# Altium footprint library WE-GDTI.PcbLib: 1 footprints
Each footprint in its own frame and in the unit in brackets; x right, y up, seen from the top. Pads: shape width x height; smd on the part's side, far side on the other; paste and mask are expansions set on the pad; w line width, h text height; cw(c..) or ccw(c..) is an arc to the next point about the centre after c.
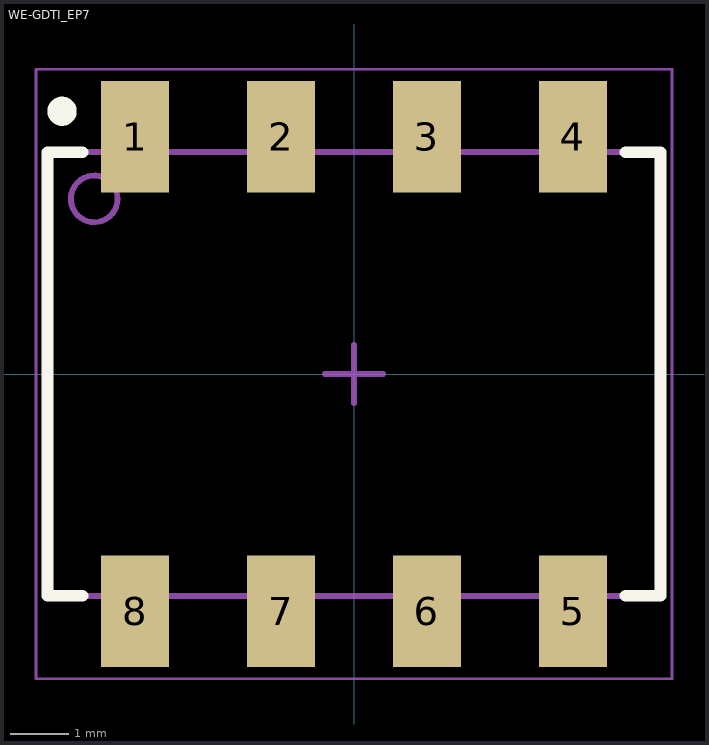
[diagram p0: the footprint, top view; thin cyan lines are the x and y axes]

## WE-GDTI_EP7 [mm] "SMD Inductor, 8-Leads, Body 10.5x10.5mm"
height 11
pads (8):
  rect 1.17x1.91 smd: 1(-3.75,4.065) 2(-1.25,4.065) 3(1.25,4.065) 4(3.75,4.065) 5(3.75,-4.065) 6(1.25,-4.065) 7(-1.25,-4.065) 8(-3.75,-4.065)
Top Overlay:
  circle w0.25: c-5,4.5 r0.125
  lines w0.2: -4.65,-3.8 -5.25,-3.8 -5.25,3.8 -4.65,3.8 ; 4.65,-3.8 5.25,-3.8 5.25,3.8 4.65,3.8
Top Assembly:
  circle w0.1: c-4.45,3 r0.4
  lines w0.1: -4.1,-3.8 -4.1,-4.57 -3.4,-4.57 -3.4,-3.8 ; -4.1,3.8 -4.1,4.57 -3.4,4.57 -3.4,3.8 ; -1.6,-3.8 -1.6,-4.57 -0.9,-4.57 -0.9,-3.8 ; -1.6,3.8 -1.6,4.57 -0.9,4.57 -0.9,3.8 ; 0.9,-3.8 0.9,-4.57 1.6,-4.57 1.6,-3.8 ; 0.9,3.8 0.9,4.57 1.6,4.57 1.6,3.8 ; 3.4,-3.8 3.4,-4.57 4.1,-4.57 4.1,-3.8 ; 3.4,3.8 3.4,4.57 4.1,4.57 4.1,3.8 ; -5.25,-3.8 5.25,-3.8 5.25,3.8 -5.25,3.8 -5.25,-3.8
Top Designator:
  text ".Designator" at -3.647,-0.357 h1
Top 3D Body:
  circle w0.1: c-4.45,3 r0.4
  lines w0.1: -4.1,-3.8 -4.1,-4.57 -3.4,-4.57 -3.4,-3.8 ; -4.1,3.8 -4.1,4.57 -3.4,4.57 -3.4,3.8 ; -1.6,-3.8 -1.6,-4.57 -0.9,-4.57 -0.9,-3.8 ; -1.6,3.8 -1.6,4.57 -0.9,4.57 -0.9,3.8 ; 0.9,-3.8 0.9,-4.57 1.6,-4.57 1.6,-3.8 ; 0.9,3.8 0.9,4.57 1.6,4.57 1.6,3.8 ; 3.4,-3.8 3.4,-4.57 4.1,-4.57 4.1,-3.8 ; 3.4,3.8 3.4,4.57 4.1,4.57 4.1,3.8 ; -5.25,-3.8 5.25,-3.8 5.25,3.8 -5.25,3.8 -5.25,-3.8
Top Courtyard:
  lines w0.05: -5.45,-5.22 -5.45,5.22 5.45,5.22 5.45,-5.22 -5.45,-5.22
Top Component Center:
  lines w0.1: -0.5,0 0.5,0 ; 0,-0.5 0,0.5
3D body "STEP-WE-GDTI-EP7-rev1.stp": height 10.55, standoff 0.01, extent -4.89,-4.57 4.89,4.57